# EAGLE library part ATTINY24/44/84 (library bt_avr)
Atmel AVR ATtiny24/44/84 14-pin High Performance, Low Power AVR® 8-bit Microcontroller
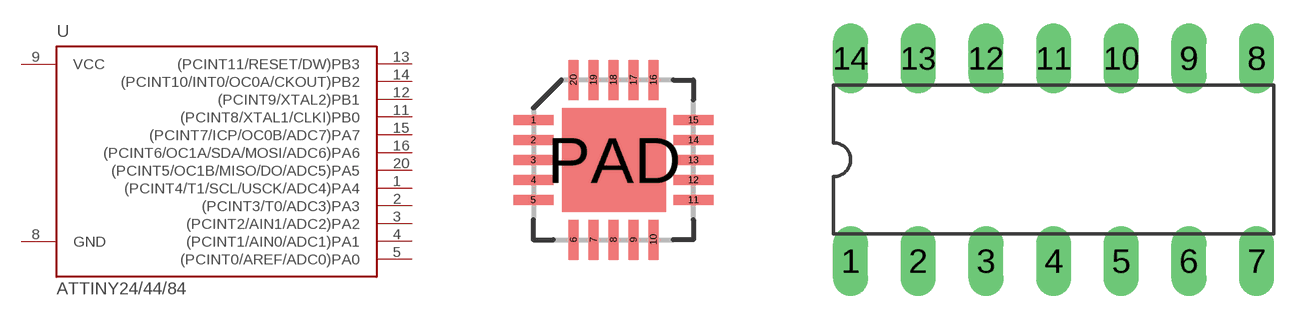
[diagram p3: symbol with the pads of 20MLF_0.5; footprints 20MLF_0.5, DIL14-3]

Designator prefix U

## ATTINY24/44/84-MU  [20MLF_0.5]
1  (PCINT4/T1/SCL/USCK/ADC4)PA4
2  (PCINT3/T0/ADC3)PA3
3  (PCINT2/AIN1/ADC2)PA2
4  (PCINT1/AIN0/ADC1)PA1
5  (PCINT0/AREF/ADC0)PA0
8  GND
9  VCC
11  (PCINT8/XTAL1/CLKI)PB0
12  (PCINT9/XTAL2)PB1
13  (PCINT11/RESET/DW)PB3
14  (PCINT10/INT0/OC0A/CKOUT)PB2
15  (PCINT7/ICP/OC0B/ADC7)PA7
16  (PCINT6/OC1A/SDA/MOSI/ADC6)PA6
20  (PCINT5/OC1B/MISO/DO/ADC5)PA5

## ATTINY24/44/84-PU  [DIL14-3]
1  VCC
2  (PCINT8/XTAL1/CLKI)PB0
3  (PCINT9/XTAL2)PB1
4  (PCINT11/RESET/DW)PB3
5  (PCINT10/INT0/OC0A/CKOUT)PB2
6  (PCINT7/ICP/OC0B/ADC7)PA7
7  (PCINT6/OC1A/SDA/MOSI/ADC6)PA6
8  (PCINT5/OC1B/MISO/DO/ADC5)PA5
9  (PCINT4/T1/SCL/USCK/ADC4)PA4
10  (PCINT3/T0/ADC3)PA3
11  (PCINT2/AIN1/ADC2)PA2
12  (PCINT1/AIN0/ADC1)PA1
13  (PCINT0/AREF/ADC0)PA0
14  GND

## ATTINY24/44/84-SSU  [SOIC14N]
Pads as for DIL14-3

## Footprint 20MLF_0.5 (pad centres in mm)
smd 1 x 0.25: 1 0,3; 2 0,2.5; 3 0,2; 4 0,1.5; 5 0,1; 11 4,1; 12 4,1.5; 13 4,2; 14 4,2.5; 15 4,3
smd 0.25 x 1: 6 1,0; 7 1.5,0; 8 2,0; 9 2.5,0; 10 3,0; 16 3,4; 17 2.5,4; 18 2,4; 19 1.5,4; 20 1,4
smd 2.6 x 2.6: PAD 2.02,1.99

## Footprint DIL14-3 (pad centres in mm)
drill 0.8 long: 1 -6.35,-3.81; 2 -3.81,-3.81; 3 -1.27,-3.81; 4 1.27,-3.81; 5 3.81,-3.81; 6 6.35,-3.81; 7 8.89,-3.81; 8 8.89,3.81; 9 6.35,3.81; 10 3.81,3.81; 11 1.27,3.81; 12 -1.27,3.81; 13 -3.81,3.81; 14 -6.35,3.81

## Footprint SOIC14N (pad centres in mm)
smd 0.66 x 2.2: 1 -3.81,-3; 2 -2.54,-3; 3 -1.27,-3; 4 0,-3; 5 1.27,-3; 6 2.54,-3; 7 3.81,-3; 8 3.81,3; 9 2.54,3; 10 1.27,3; 11 0,3; 12 -1.27,3; 13 -2.54,3; 14 -3.81,3